# EAGLE library part LAN8710A (library OLIMEX_IC)
LAN8710A/LAN8710Ai Small Footprint MII/RMII 10/100 Ethernet Transceiver with HP Auto-MDIX and flexPWR® Technology
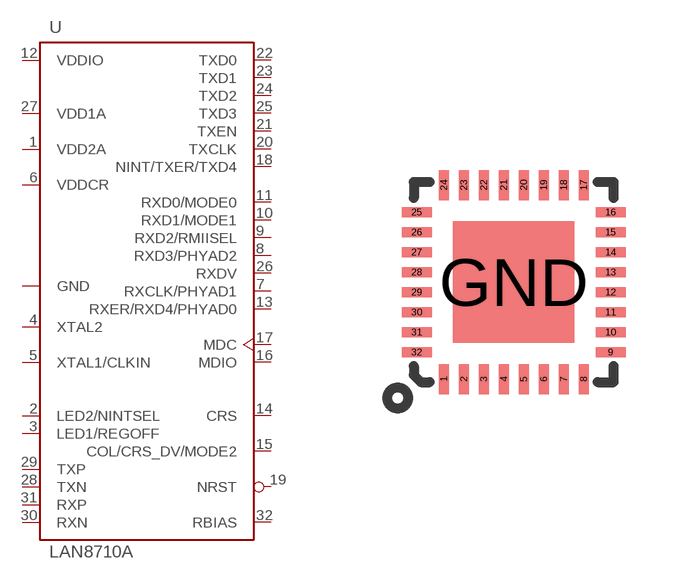
[diagram p0: symbol with the pads of QFN-32(DRILLS); footprint QFN-32(DRILLS)]

Designator prefix U

## LAN8710A-EZC  [QFN-32(DRILLS)]
1  VDD2A  pwr
2  LED2/NINTSEL
3  LED1/REGOFF
4  XTAL2  out
5  XTAL1/CLKIN  in
6  VDDCR  pwr
7  RXCLK/PHYAD1
8  RXD3/PHYAD2
9  RXD2/RMIISEL
10  RXD1/MODE1
11  RXD0/MODE0
12  VDDIO  pwr
13  RXER/RXD4/PHYAD0
14  CRS  out
15  COL/CRS_DV/MODE2
16  MDIO
17  MDC  in
18  NINT/TXER/TXD4
19  NRST  in
20  TXCLK  out
21  TXEN  in
22  TXD0  in
23  TXD1  in
24  TXD2  in
25  TXD3  in
26  RXDV  out
27  VDD1A  pwr
28  TXN  out
29  TXP  out
30  RXN  in
31  RXP  in
32  RBIAS  in
GND  GND  pwr

## Footprint QFN-32(DRILLS) (pad centres in mm)
smd 0.25 x 0.75: 1 -1.75,-2.425; 2 -1.25,-2.425; 3 -0.75,-2.425; 4 -0.25,-2.425; 5 0.25,-2.425; 6 0.75,-2.425; 7 1.25,-2.425; 8 1.75,-2.425; 17 1.75,2.425; 18 1.25,2.425; 19 0.75,2.425; 20 0.25,2.425; 21 -0.25,2.425; 22 -0.75,2.425; 23 -1.25,2.425; 24 -1.75,2.425
smd 0.75 x 0.25: 9 2.425,-1.75; 10 2.425,-1.25; 11 2.425,-0.75; 12 2.425,-0.25; 13 2.425,0.25; 14 2.425,0.75; 15 2.425,1.25; 16 2.425,1.75; 25 -2.425,1.75; 26 -2.425,1.25; 27 -2.425,0.75; 28 -2.425,0.25; 29 -2.425,-0.25; 30 -2.425,-0.75; 31 -2.425,-1.25; 32 -2.425,-1.75
smd 3.048 x 3.048: GND 0,0